# EAGLE library part NEOWAY-M680-MIN (library X893)
http://wless.ru/news/?action=details&id=543&pf=tech&pf_id=2&prod=35&tech=2&type=34
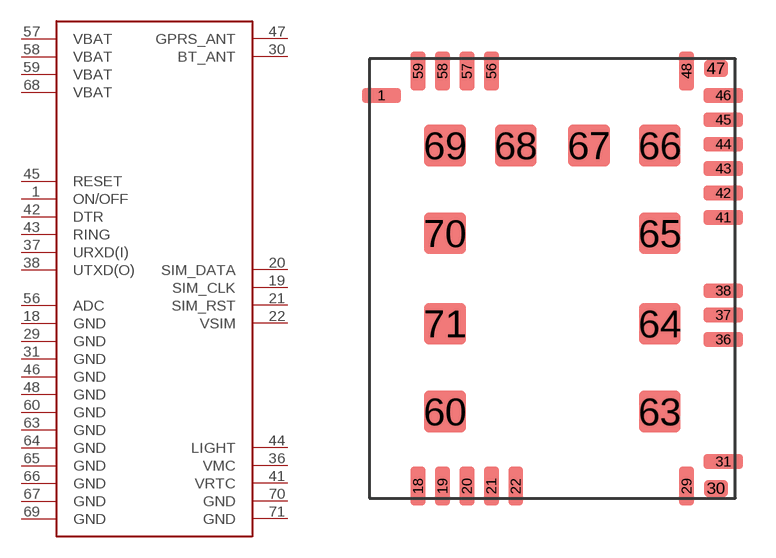
[diagram p204: symbol with the pads of NEOWAY-M680-MIN; footprint NEOWAY-M680-MIN]

Designator prefix U

## NEOWAY-M680-MIN  [NEOWAY-M680-MIN]
1  ON/OFF  in
18  GND  pwr
19  SIM_CLK
20  SIM_DATA
21  SIM_RST
22  VSIM
29  GND  pwr
30  BT_ANT  pas
31  GND  pwr
36  VMC  pas
37  URXD(I)  in
38  UTXD(O)  out
41  VRTC  pas
42  DTR  in
43  RING  out
44  LIGHT  out
45  RESET  in
46  GND  pwr
47  GPRS_ANT  pas
48  GND  pwr
56  ADC  in
57  VBAT  pwr
58  VBAT  pwr
59  VBAT  pwr
60  GND  pwr
63  GND  pwr
64  GND  pwr
65  GND  pwr
66  GND  pwr
67  GND  pwr
68  VBAT  pwr
69  GND  pwr
70  GND  pwr
71  GND  pwr

## Footprint NEOWAY-M680-MIN (pad centres in mm)
smd 1.6 x 0.6: 1 -7,7.5; 31 7,-7.5; 36 7,-2.5; 37 7,-1.5; 38 7,-0.5; 41 7,2.5; 42 7,3.5; 43 7,4.5; 44 7,5.5; 45 7,6.5; 46 7,7.5
smd 0.6 x 1.6: 18 -5.5,-8.5; 19 -4.5,-8.5; 20 -3.5,-8.5; 21 -2.5,-8.5; 22 -1.5,-8.5; 29 5.5,-8.5; 48 5.5,8.5; 56 -2.5,8.5; 57 -3.5,8.5; 58 -4.5,8.5; 59 -5.5,8.5
smd 1 x 0.7: 30 6.7,-8.6; 47 6.7,8.6
smd 1.7 x 1.7: 60 -4.4,-5.45; 63 4.4,-5.45; 64 4.4,-1.85; 65 4.4,1.85; 66 4.4,5.45; 67 1.5,5.45; 68 -1.5,5.45; 69 -4.4,5.45; 70 -4.4,1.85; 71 -4.4,-1.85